# EAGLE library part ADL5375 (library analog-devices)
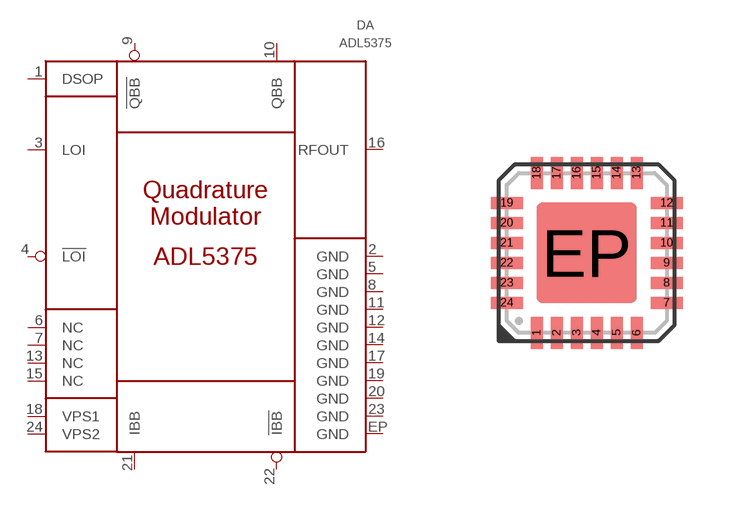
[diagram p13: symbol with the pads of LFCSP-24; footprint LFCSP-24]

Designator prefix DA

## ADL5375-05ACPZ-R7  [LFCSP-24]
1  DSOP  in
2  GND  pwr
3  LOI  in
4  !LOI  in
5  GND  pwr
6  NC  nc
7  NC  nc
8  GND  pwr
9  !QBB  in
10  QBB  in
11  GND  pwr
12  GND  pwr
13  NC  nc
14  GND  pwr
15  NC  nc
16  RFOUT  out
17  GND  pwr
18  VPS1  pwr
19  GND  pwr
20  GND  pwr
21  IBB  in
22  !IBB  in
23  GND  pwr
24  VPS2  pwr
EP  GND  pwr

## ADL5375-05ACPZ-R2  [LFCSP-24]
Pads as for LFCSP-24

## ADL5375-15ACPZ-R7  [LFCSP-24]
Pads as for LFCSP-24

## ADL5375-15ACPZ-WP  [LFCSP-24]
Pads as for LFCSP-24

## Footprint LFCSP-24 (pad centres in mm)
smd 0.3 x 0.8: 1 -1.25,-2; 2 -0.75,-2; 3 -0.25,-2; 4 0.25,-2; 5 0.75,-2; 6 1.25,-2; 13 1.25,2; 14 0.75,2; 15 0.25,2; 16 -0.25,2; 17 -0.75,2; 18 -1.25,2
smd 0.8 x 0.3: 7 2,-1.25; 8 2,-0.75; 9 2,-0.25; 10 2,0.25; 11 2,0.75; 12 2,1.25; 19 -2,1.25; 20 -2,0.75; 21 -2,0.25; 22 -2,-0.25; 23 -2,-0.75; 24 -2,-1.25
smd 2.5 x 2.5: EP 0,0